# Altium schematic symbol library 7499111614A.SchLib: 1 symbol
Pins are listed as number, name and electrical type; pins without a type are passive.

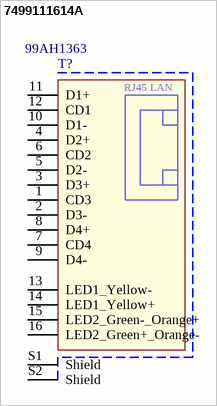
[diagram p0: symbol 7499111614A]

## 7499111614A
designator T?  Supplier Part Number 1: 99AH1363
1 Port RJ45 Through Hole 10/100/1000 Base-T, AutoMDIX; Part Number: 7499111221A; Tab Position: Up; Port Number: 1x1; PoE: non-PoE; LED (Left-Right): green-green; USB: No; ComponentLink1Description: Manufacturer; ComponentLink1URL: http://www.we-online.de; ComponentLink2Description: Datasheet; ComponentLink2URL: http://katalog.we-online.de/pbs/datasheet/7499111221A.pdf; Published Date: Dec. 2017; Publisher: Wurth Elektronik; Data Rate: 10/100/1000 Base-T; Operating Temperature: 0 to +70 degC; Mounting Technology: THT; Supplier 1: Newark
footprint 7499111614A (LAN Transformer, body 33.02x16.87mm)
pins: 1 CD3, 2 D3-, 3 D3+, 4 D2+, 5 D2-, 6 CD2, 7 CD4, 8 D4+, 9 D4-, 10 D1-, 11 D1+, 12 CD1, 13 LED1_Yellow-, 14 LED1_Yellow+, 15 LED2_Green-_Orange+, 16 LED2_Green+_Orange-, S1 Shield, S2 Shield
text: RJ45 LAN